# Altium schematic symbol library SKYWORKS SKY13355-374LF.SchLib: 1 symbol
Pins are listed as number, name and electrical type; pins without a type are passive.

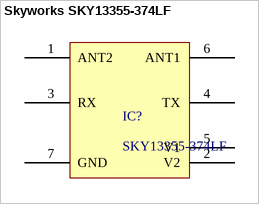
[diagram p0: symbol Skyworks SKY13355-374LF]

## Skyworks SKY13355-374LF
designator IC?, comment SKY13355-374LF
0.1-6.0 GHz DPDT Switch
pins: 1 ANT2, 2 V2, 3 RX, 4 TX, 5 V1, 6 ANT1, 7 GND